# EAGLE library part VF901268 (library NewSDR)
Valpey Fisher 983.04 MHz Jitter Attenuator 10 MHz Reference with Sine Output
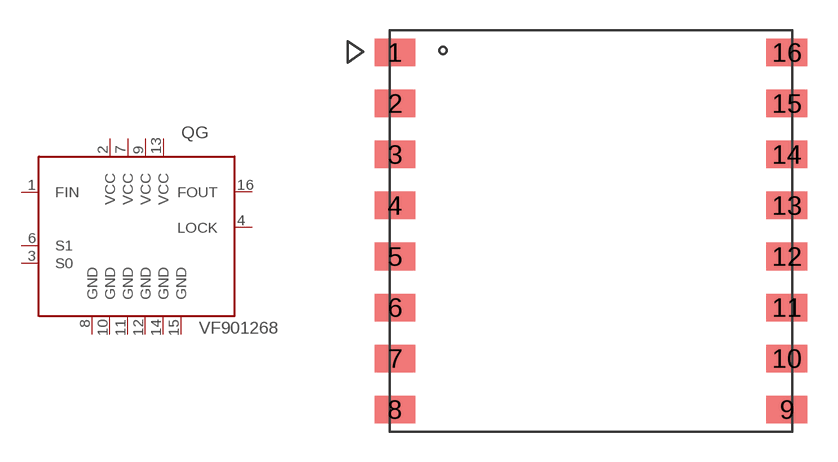
[diagram p178: symbol with the pads of VF900919; footprint VF900919]

Designator prefix QG

## VF901268  [VF900919]
1  FIN  in
2  VCC  pwr
3  S0  in
4  LOCK  out
6  S1  in
7  VCC  pwr
8  GND  pwr
9  VCC  pwr
10  GND  pwr
11  GND  pwr
12  GND  pwr
13  VCC  pwr
14  GND  pwr
15  GND  pwr
16  FOUT  out

## Footprint VF900919 (pad centres in mm)
Valpey Fisher Jitter Cleaner Module
smd 2.032 x 1.372: 1 -9.746,8.89; 2 -9.746,6.35; 3 -9.746,3.81; 4 -9.746,1.27; 5 -9.746,-1.27; 6 -9.746,-3.81; 7 -9.746,-6.35; 8 -9.746,-8.89; 9 9.746,-8.89; 10 9.746,-6.35; 11 9.746,-3.81; 12 9.746,-1.27; 13 9.746,1.27; 14 9.746,3.81; 15 9.746,6.35; 16 9.746,8.89